# Altium schematic symbol library MEGA2560_Rev3e.SCHLIB: 40 symbols
Pins are listed as number, name and electrical type; pins without a type are passive.

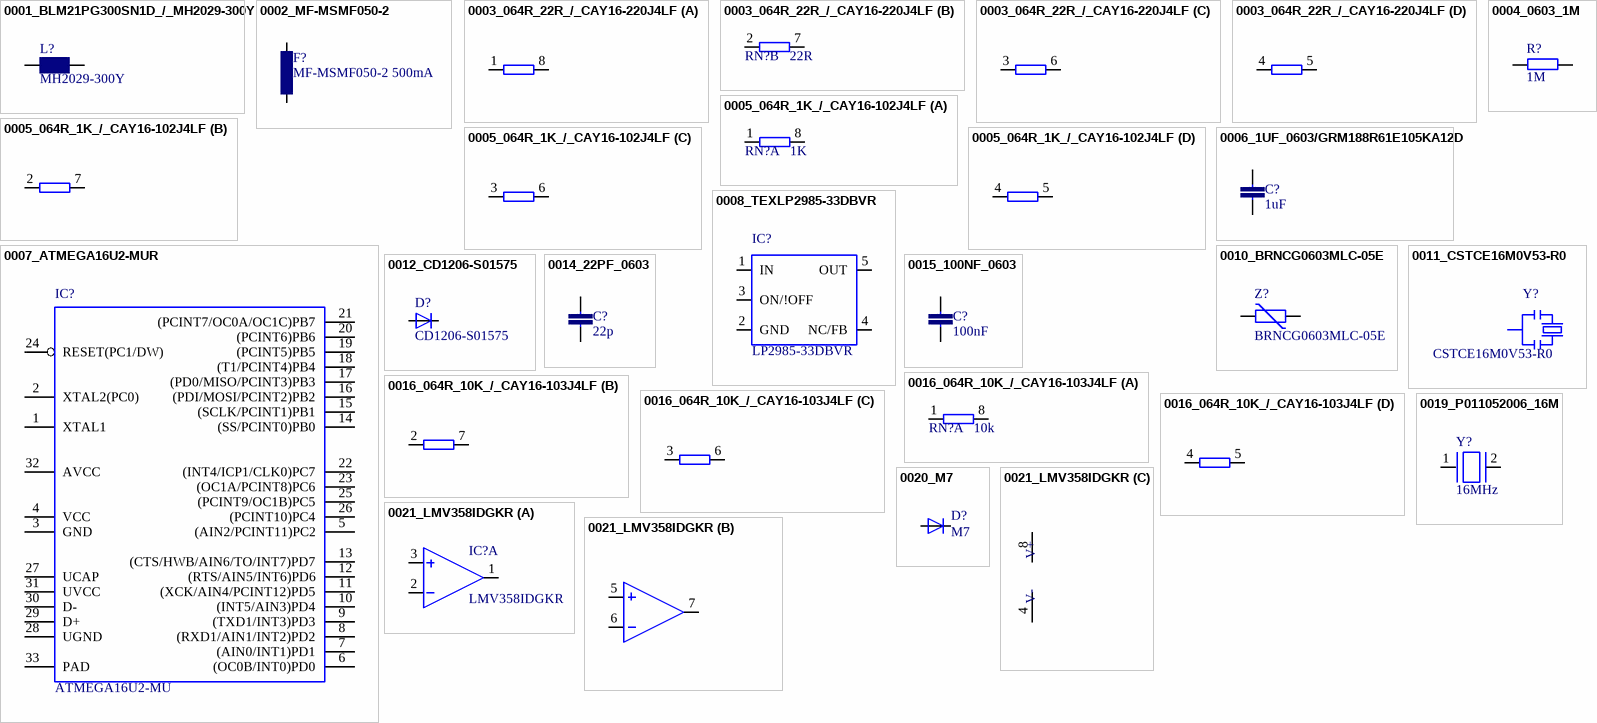
[diagram p0: symbols 0001_BLM21PG300SN1D_/_MH2029-300Y to 0021_LMV358IDGKR]

## 0001_BLM21PG300SN1D_/_MH2029-300Y
designator L?, comment MH2029-300Y
footprint 0805 (Multilayer SMD)
pins: 1, 2

## 0002_MF-MSMF050-2
designator F?, comment MF-MSMF050-2 500mA
footprint L1812 (INDUCTOR)
pins: 1, 2

## 0003_064R_22R_/_CAY16-220J4LF
designator RN?, comment 22R
footprint CAY16 (BOURNS Chip Resistor Array)
part A pins: 1, 8 2
part B pins: 2 1, 7 2
part C pins: 3 1, 6 2
part D pins: 4 1, 5 2

## 0004_0603_1M
designator R?, comment 1M
footprint R0603-ROUND (RESISTOR)
pins: 1, 2

## 0005_064R_1K_/_CAY16-102J4LF
designator RN?, comment 1K
footprint CAY16 (BOURNS Chip Resistor Array)
part A pins: 1, 8 2
part B pins: 2 1, 7 2
part C pins: 3 1, 6 2
part D pins: 4 1, 5 2

## 0006_1UF_0603/GRM188R61E105KA12D
designator C?, comment 1uF
footprint C0603-ROUND (CAPACITOR)
pins: 1, 2

## 0007_ATMEGA16U2-MUR
designator IC?, comment ATMEGA16U2-MU
footprint MLF32 (mlf-32)
pins: 1 XTAL1, 2 XTAL2(PC0), 3 GND, 4 VCC, 5 (AIN2/PCINT11)PC2, 6 (OC0B/INT0)PD0, 7 (AIN0/INT1)PD1, 8 (RXD1/AIN1/INT2)PD2, 9 (TXD1/INT3)PD3, 10 (INT5/AIN3)PD4, 11 (XCK/AIN4/PCINT12)PD5, 12 (RTS/AIN5/INT6)PD6, 13 (CTS/HWB/AIN6/TO/INT7)PD7, 14 (SS/PCINT0)PB0, 15 (SCLK/PCINT1)PB1, 16 (PDI/MOSI/PCINT2)PB2, 17 (PD0/MISO/PCINT3)PB3, 18 (T1/PCINT4)PB4, 19 (PCINT5)PB5, 20 (PCINT6)PB6, 21 (PCINT7/OC0A/OC1C)PB7, 22 (INT4/ICP1/CLK0)PC7, 23 (OC1A/PCINT8)PC6, 24 RESET(PC1/DW), 25 (PCINT9/OC1B)PC5, 26 (PCINT10)PC4, 27 UCAP, 28 UGND, 29 D+, 30 D-, 31 UVCC, 32 AVCC, 33 PAD

## 0008_TEXLP2985-33DBVR
designator IC?, comment LP2985-33DBVR
footprint SOT23-DBV (Small Outline Transistor DBV (R-PDSO-G5))
pins: 1 IN, 2 GND, 3 ON/!OFF, 4 NC/FB, 5 OUT

## 0010_BRNCG0603MLC-05E
designator Z?, comment BRNCG0603MLC-05E
footprint CT/CN0603 (EPCOS SMD Varistors, MLV; Standard Series)
pins: 1, 2

## 0011_CSTCE16M0V53-R0
designator Y?, comment CSTCE16M0V53-R0
footprint RESONATOR (USECOMPONENTLIBRARY=T)
pins: 1, 2, 3

## 0012_CD1206-S01575
designator D?, comment CD1206-S01575
footprint MINIMELF (Mini Melf Diode)
pins: A, C

## 0014_22PF_0603
designator C?, comment 22p
footprint C0603-ROUND (CAPACITOR)
pins: 1, 2

## 0015_100NF_0603
designator C?, comment 100nF
footprint C0603-ROUND (CAPACITOR)
pins: 1, 2

## 0016_064R_10K_/_CAY16-103J4LF
designator RN?, comment 10k
footprint CAY16 (BOURNS Chip Resistor Array)
part A pins: 1, 8 2
part B pins: 2 1, 7 2
part C pins: 3 1, 6 2
part D pins: 4 1, 5 2

## 0019_P011052006_16M
designator Y?, comment 16MHz
footprint QS (CRYSTAL)
pins: 1, 2

## 0020_M7
designator D?, comment M7
footprint SMB (DIODE)
pins: A, C

## 0021_LMV358IDGKR
designator IC?, comment LMV358IDGKR
footprint MSOP08 (Mini Small Outline Package)
part A pins: 1 OUT, 2 -IN, 3 +IN
part B pins: 5 +IN, 6 -IN, 7 OUT
part C pins: 4 V-, 8 V+

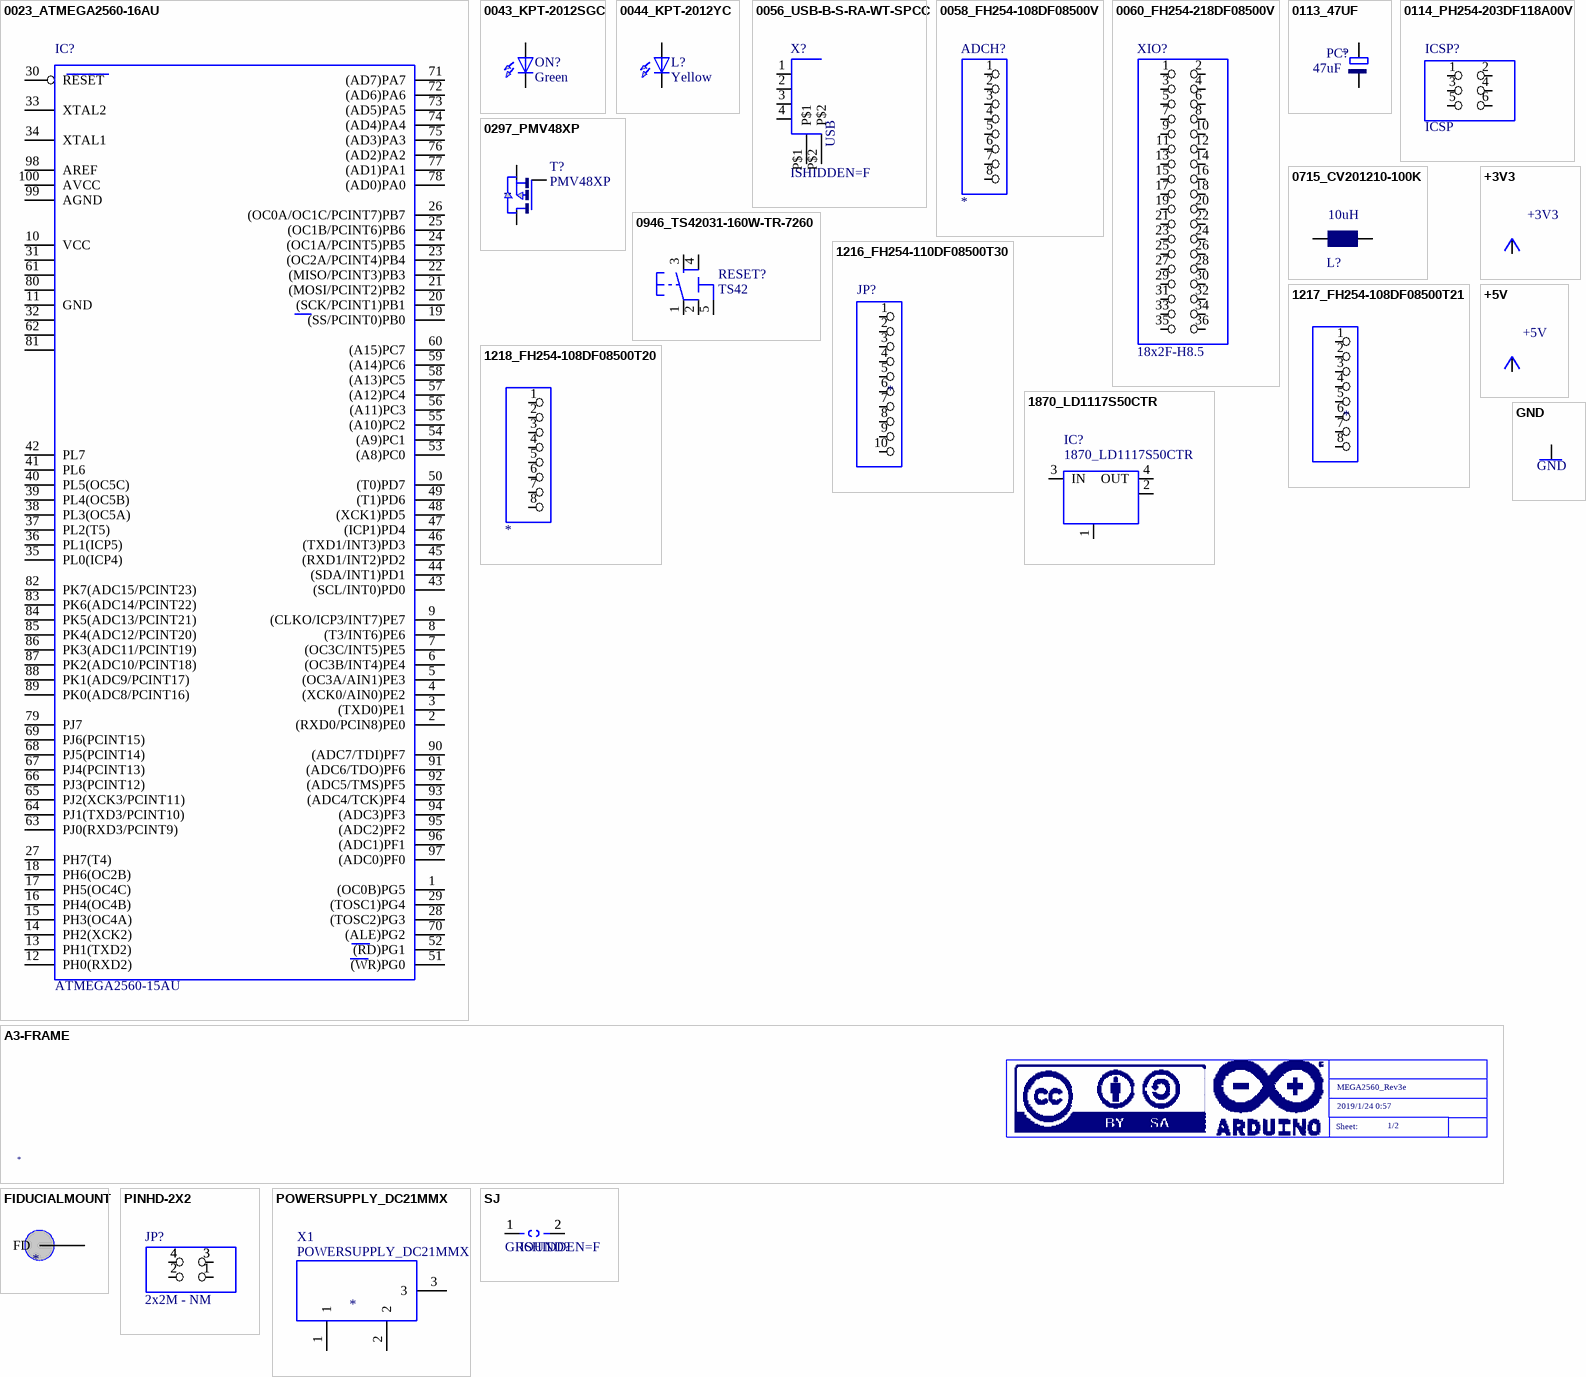
[diagram p1: symbols 0023_ATMEGA2560-16AU to SJ]

## 0023_ATMEGA2560-16AU
designator IC?, comment ATMEGA2560-15AU
footprint TQFP100 (100-lead Thin Quad Flat Pack Package Outline)
pins: 1 (OC0B)PG5, 2 (RXD0/PCIN8)PE0, 3 (TXD0)PE1, 4 (XCK0/AIN0)PE2, 5 (OC3A/AIN1)PE3, 6 (OC3B/INT4)PE4, 7 (OC3C/INT5)PE5, 8 (T3/INT6)PE6, 9 (CLKO/ICP3/INT7)PE7, 10 VCC, 11 GND, 12 PH0(RXD2), 13 PH1(TXD2), 14 PH2(XCK2), 15 PH3(OC4A), 16 PH4(OC4B), 17 PH5(OC4C), 18 PH6(OC2B), 19 (SS/PCINT0)PB0, 20 (SCK/PCINT1)PB1, 21 (MOSI/PCINT2)PB2, 22 (MISO/PCINT3)PB3, 23 (OC2A/PCINT4)PB4, 24 (OC1A/PCINT5)PB5, 25 (OC1B/PCINT6)PB6, 26 (OC0A/OC1C/PCINT7)PB7, 27 PH7(T4), 28 (TOSC2)PG3, 29 (TOSC1)PG4, 30 RESET, 31 VCC1, 32 GND1, 33 XTAL2, 34 XTAL1, 35 PL0(ICP4), 36 PL1(ICP5), 37 PL2(T5), 38 PL3(OC5A), 39 PL4(OC5B), 40 PL5(OC5C), 41 PL6, 42 PL7, 43 (SCL/INT0)PD0, 44 (SDA/INT1)PD1, 45 (RXD1/INT2)PD2, 46 (TXD1/INT3)PD3, 47 (ICP1)PD4, 48 (XCK1)PD5, 49 (T1)PD6, 50 (T0)PD7, 51 (WR)PG0, 52 (RD)PG1, 53 (A8)PC0, 54 (A9)PC1, 55 (A10)PC2, 56 (A11)PC3, 57 (A12)PC4, 58 (A13)PC5, 59 (A14)PC6, 60 (A15)PC7, 61 VCC2, 62 GND2, 63 PJ0(RXD3/PCINT9), 64 PJ1(TXD3/PCINT10), 65 PJ2(XCK3/PCINT11), 66 PJ3(PCINT12), 67 PJ4(PCINT13), 68 PJ5(PCINT14), 69 PJ6(PCINT15), 70 (ALE)PG2, 71 (AD7)PA7, 72 (AD6)PA6, 73 (AD5)PA5, 74 (AD4)PA4, 75 (AD3)PA3, 76 (AD2)PA2, 77 (AD1)PA1, 78 (AD0)PA0, 79 PJ7, 80 VCC3, 81 GND3, 82 PK7(ADC15/PCINT23), 83 PK6(ADC14/PCINT22), 84 PK5(ADC13/PCINT21), 85 PK4(ADC12/PCINT20), 86 PK3(ADC11/PCINT19), 87 PK2(ADC10/PCINT18), 88 PK1(ADC9/PCINT17), 89 PK0(ADC8/PCINT16), 90 (ADC7/TDI)PF7, 91 (ADC6/TDO)PF6, 92 (ADC5/TMS)PF5, 93 (ADC4/TCK)PF4, 94 (ADC3)PF3, 95 (ADC2)PF2, 96 (ADC1)PF1, 97 (ADC0)PF0, 98 AREF, 99 AGND, 100 AVCC

## 0043_KPT-2012SGC
designator ON?, comment Green
footprint CHIPLED_0805 (CHIPLED)
pins: A, C

## 0044_KPT-2012YC
designator L?, comment Yellow
footprint CHIPLED_0805 (CHIPLED)
pins: A, C

## 0056_USB-B-S-RA-WT-SPCC
designator X?, comment ISHIDDEN=F
footprint PN61729 (BERG)
pins: 1, 2, 3, 4, P$1, P$2
text: USB

## 0058_FH254-108DF08500V
designator ADCH?
footprint 1X08 (PIN HEADER)
pins: 1, 2, 3, 4, 5, 6, 7, 8

## 0060_FH254-218DF08500V
designator XIO?, comment 18x2F-H8.5
footprint 2X18 (PIN HEADER)
pins: 1, 2, 3, 4, 5, 6, 7, 8, 9, 10, 11, 12, 13, 14, 15, 16, 17, 18, 19, 20, 21, 22, 23, 24, 25, 26, 27, 28, 29, 30, 31, 32, 33, 34, 35, 36

## 0113_47UF
designator PC?, comment 47uF
footprint PANASONIC_D (Panasonic Aluminium Electrolytic Capacitor VS-Serie Package D)
pins: +, -

## 0114_PH254-203DF118A00V
designator ICSP?, comment ICSP
footprint 2X03 (PIN HEADER)
pins: 1, 2, 3, 4, 5, 6

## 0297_PMV48XP
designator T?, comment PMV48XP
footprint SOT-23 (Small Outline Transistor)
pins: 1 D, 2 S, 3 G

## 0715_CV201210-100K
designator L?, comment 10uH
footprint 0805 (Multilayer SMD)
pins: 1, 2

## 0946_TS42031-160W-TR-7260
designator RESET?, comment TS42
footprint TS42 (USECOMPONENTLIBRARY=T)
pins: 1, 2, 3, 4, 5 5-GND

## 1216_FH254-110DF08500T30
designator JP?
footprint 1X10 (PIN HEADER)
pins: 1, 2, 3, 4, 5, 6, 7, 8, 9, 10

## 1217_FH254-108DF08500T21
designator POWER?
footprint 1X08 (PIN HEADER)
pins: 1, 2, 3, 4, 5, 6, 7, 8

## 1218_FH254-108DF08500T20
designator PWML?
footprint 1X08 (PIN HEADER)
pins: 1, 2, 3, 4, 5, 6, 7, 8

## 1870_LD1117S50CTR
designator IC?
footprint LINEAR_SOT223 (Small Outline Transistor)
pins: 1 GND/ADJ, 2 OUT@1, 3 IN, 4 OUT

## +3V3
designator +3V?
pins: 0 +3V3

## +5V
designator P+?
pins: 0 +5V

## A3-FRAME
designator U$?
footprint FRAME (USECOMPONENTLIBRARY=T)
text: MEGA2560_Rev3e; 2019/1/24 0:57; Sheet:; 1/2

## FIDUCIALMOUNT
designator FD?
footprint FIDUCIA-MOUNT (USECOMPONENTLIBRARY=T)
pins: ?1 FD

## GND
designator GND?
pins: 0 GND

## PINHD-2X2
designator JP?, comment 2x2M - NM
footprint 2X02 (PIN HEADER)
pins: 1, 1, 2, 2, 3, 3, 4, 4

## POWERSUPPLY_DC21MMX
designator X?
footprint POWERSUPPLY_DC-21MM (DC 2.1mm Jack)
pins: 1, 2, 3
text: X1

## SJ
designator GROUND?, comment ISHIDDEN=F
footprint SJ (Solder jumper)
pins: 1, 1, 2, 2